# Altium footprint library STeRG-ICs-Standard.PcbLib: 44 footprints (part 1 of 3)
Each footprint in its own frame and in the unit in brackets; x right, y up, seen from the top. Pads: shape width x height; smd on the part's side, far side on the other; paste and mask are expansions set on the pad; w line width, h text height; cw(c..) or ccw(c..) is an arc to the next point about the centre after c.
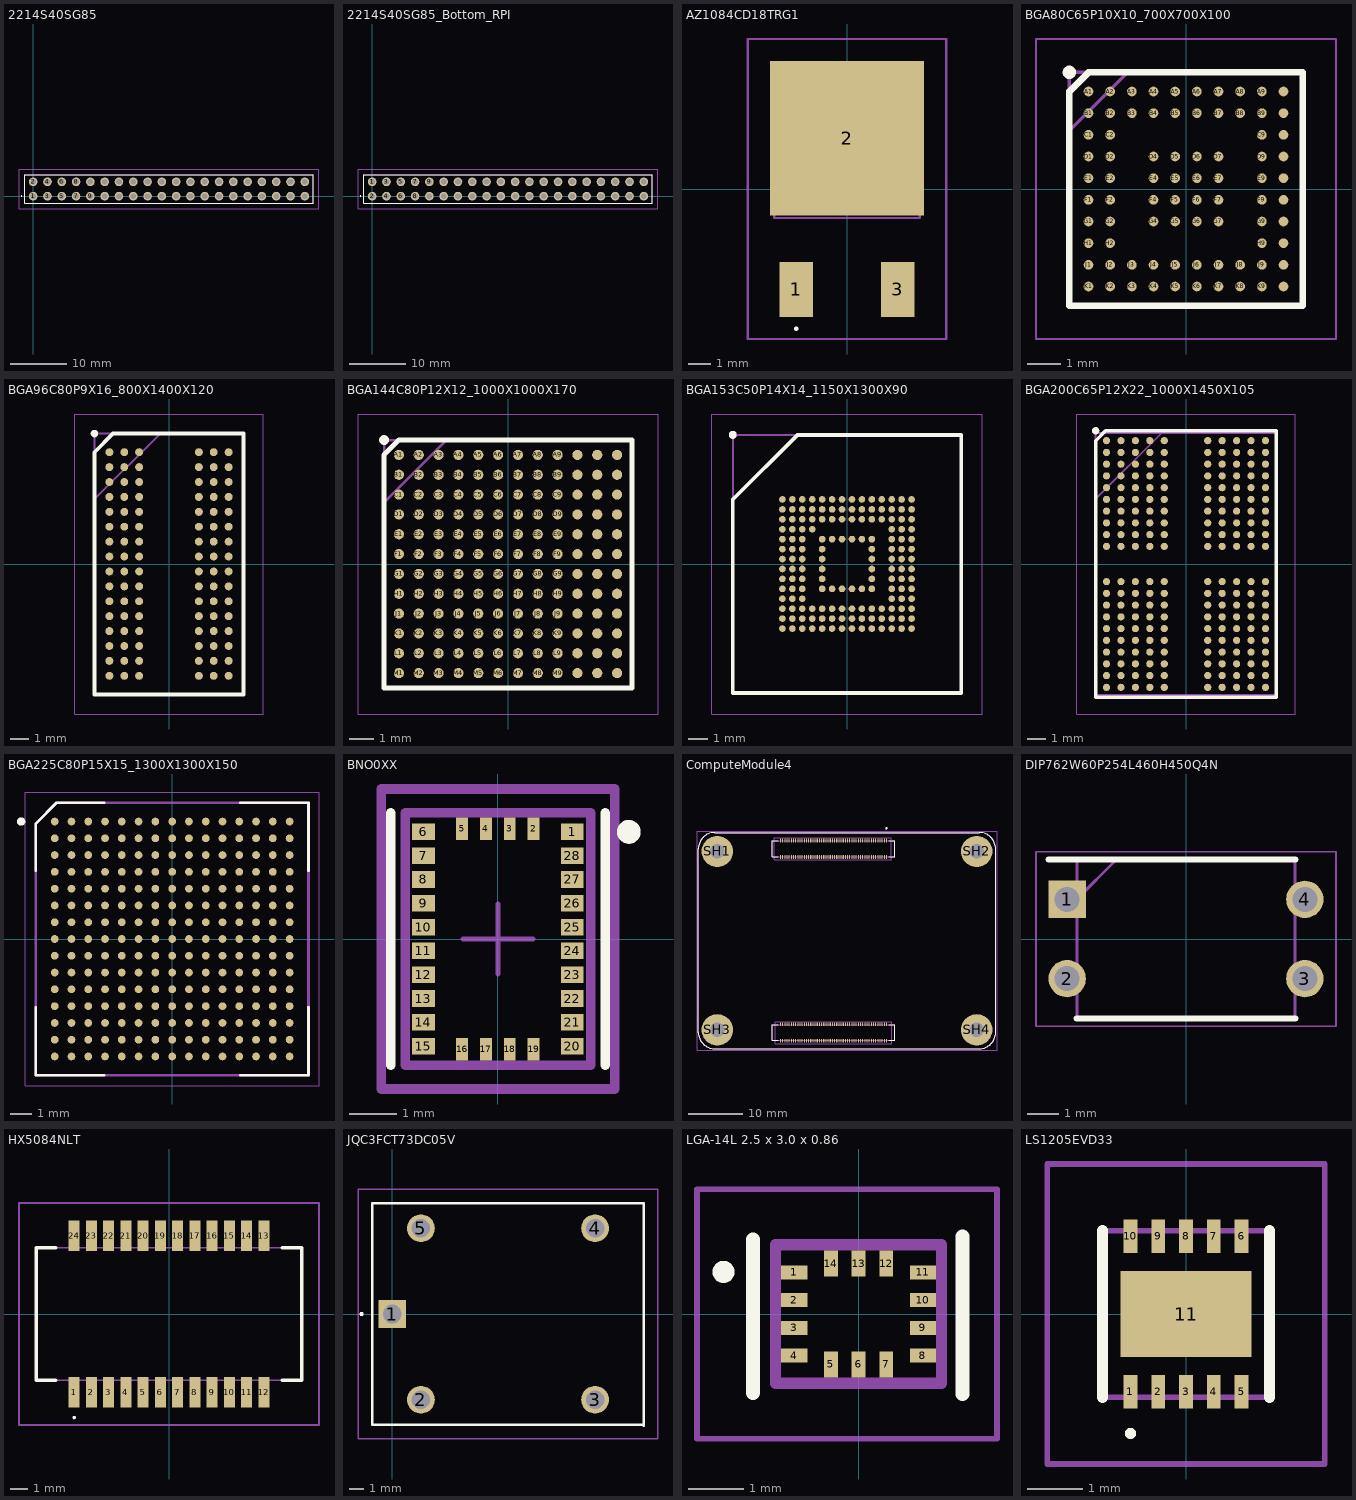
[diagram p0: the footprints below, top view; thin cyan lines are the x and y axes]

## 2214S40SG85 [mm]
pads (40):
  round 1.53 hole 1.02: 1(0,0) 2(0,2.54) 3(2.54,0) 4(2.54,2.54) 5(5.08,0) 6(5.08,2.54) 7(7.62,0) 8(7.62,2.54) 9(10.16,0) 10(10.16,2.54) 11(12.7,0) 12(12.7,2.54) 13(15.24,0) 14(15.24,2.54) 15(17.78,0) 16(17.78,2.54) 17(20.32,0) 18(20.32,2.54) 19(22.86,0) 20(22.86,2.54) 21(25.4,0) 22(25.4,2.54) 23(27.94,0) 24(27.94,2.54) 25(30.48,0) 26(30.48,2.54) 27(33.02,0) 28(33.02,2.54) 29(35.56,0) 30(35.56,2.54) 31(38.1,0) 32(38.1,2.54) 33(40.64,0) 34(40.64,2.54) 35(43.18,0) 36(43.18,2.54) 37(45.72,0) 38(45.72,2.54) 39(48.26,0) 40(48.26,2.54)
Top Overlay:
  lines w0.1: -2.1,0 cw(c-2.05,0) -2,0 cw(c-2.05,0) -2.1,0
  lines w0.2: -1.52,-1.27 -1.52,3.81 49.78,3.81 49.78,-1.27 -1.52,-1.27
Mechanical 13:
  lines w0.1: -1.52,-1.27 -1.52,3.81 49.78,3.81 49.78,-1.27 -1.52,-1.27
Mechanical 15:
  lines w0.1: -2.52,-2.27 -2.52,4.81 50.78,4.81 50.78,-2.27 -2.52,-2.27
3D body "M20-7831046.stp": height 8.46, standoff -3.04, extent -1.47,-1.27 24.33,3.77
3D body "M20-7831046.stp": height 8.46, standoff -3.04, extent 23.93,-1.27 49.73,3.77

## 2214S40SG85_Bottom_RPI [mm]
pads (40):
  round 1.53 hole 1.02: 1(0,2.54) 2(0,0) 3(2.54,2.54) 4(2.54,0) 5(5.08,2.54) 6(5.08,0) 7(7.62,2.54) 8(7.62,0) 9(10.16,2.54) 10(10.16,0) 11(12.7,2.54) 12(12.7,0) 13(15.24,2.54) 14(15.24,0) 15(17.78,2.54) 16(17.78,0) 17(20.32,2.54) 18(20.32,0) 19(22.86,2.54) 20(22.86,0) 21(25.4,2.54) 22(25.4,0) 23(27.94,2.54) 24(27.94,0) 25(30.48,2.54) 26(30.48,0) 27(33.02,2.54) 28(33.02,0) 29(35.56,2.54) 30(35.56,0) 31(38.1,2.54) 32(38.1,0) 33(40.64,2.54) 34(40.64,0) 35(43.18,2.54) 36(43.18,0) 37(45.72,2.54) 38(45.72,0) 39(48.26,2.54) 40(48.26,0)
Top Overlay:
  lines w0.1: -2.1,0 ccw(c-2.05,0) -2,0 ccw(c-2.05,0) -2.1,0
  lines w0.2: -1.52,-1.27 49.78,-1.27 49.78,3.81 -1.52,3.81 -1.52,-1.27
Mechanical 13:
  lines w0.1: -1.52,-1.27 49.78,-1.27 49.78,3.81 -1.52,3.81 -1.52,-1.27
Mechanical 15:
  lines w0.1: -2.52,-2.27 50.78,-2.27 50.78,4.81 -2.52,4.81 -2.52,-2.27
3D body "M20-7831046.stp": height 2.5, standoff -9, extent 23.93,-1.23 49.73,3.81
3D body "M20-7831046.stp": height 2.5, standoff -9, extent -1.47,-1.23 24.33,3.81

## AZ1084CD18TRG1 [mm]
pads (3):
  rect 1.5x2.5 smd: 1(-2.3,-4.55) 3(2.3,-4.55)
  rect 7x7 smd: 2(0,2.3)
Top Overlay:
  lines w0.1: -2.3,-6.381 cw(c-2.3,-6.331) -2.3,-6.281 cw(c-2.3,-6.331) -2.3,-6.381
Mechanical 13:
  lines w0.1: -3.3,-1.312 3.3,-1.312 3.3,4.788 -3.3,4.788 -3.3,-1.312
Mechanical 15:
  lines w0.1: -4.5,-6.8 4.5,-6.8 4.5,6.8 -4.5,6.8 -4.5,-6.8
3D body "AZ1084CD-1.8TRG1.stp": height 2.48, standoff 0, extent -3.29,-4.41 3.29,5.5

## BGA80C65P10X10_700X700X100 [mm]
pads (80):
  round 0.29 smd: A1(-2.925,2.925) A2(-2.275,2.925) A3(-1.625,2.925) A4(-0.975,2.925) A5(-0.325,2.925) A6(0.325,2.925) A7(0.975,2.925) A8(1.625,2.925) A9(2.275,2.925) A10(2.925,2.925) B1(-2.925,2.275) B2(-2.275,2.275) B3(-1.625,2.275) B4(-0.975,2.275) B5(-0.325,2.275) B6(0.325,2.275) B7(0.975,2.275) B8(1.625,2.275) B9(2.275,2.275) B10(2.925,2.275) C1(-2.925,1.625) C2(-2.275,1.625) C9(2.275,1.625) C10(2.925,1.625) D1(-2.925,0.975) D2(-2.275,0.975) D4(-0.975,0.975) D5(-0.325,0.975) D6(0.325,0.975) D7(0.975,0.975) D9(2.275,0.975) D10(2.925,0.975) E1(-2.925,0.325) E2(-2.275,0.325) E4(-0.975,0.325) E5(-0.325,0.325) E6(0.325,0.325) E7(0.975,0.325) E9(2.275,0.325) E10(2.925,0.325) F1(-2.925,-0.325) F2(-2.275,-0.325) F4(-0.975,-0.325) F5(-0.325,-0.325) F6(0.325,-0.325) F7(0.975,-0.325) F9(2.275,-0.325) F10(2.925,-0.325) G1(-2.925,-0.975) G2(-2.275,-0.975) G4(-0.975,-0.975) G5(-0.325,-0.975) G6(0.325,-0.975) G7(0.975,-0.975) G9(2.275,-0.975) G10(2.925,-0.975) H1(-2.925,-1.625) H2(-2.275,-1.625) H9(2.275,-1.625) H10(2.925,-1.625) J1(-2.925,-2.275) J2(-2.275,-2.275) J3(-1.625,-2.275) J4(-0.975,-2.275) J5(-0.325,-2.275) J6(0.325,-2.275) J7(0.975,-2.275) J8(1.625,-2.275) J9(2.275,-2.275) J10(2.925,-2.275) K1(-2.925,-2.925) K2(-2.275,-2.925) K3(-1.625,-2.925) K4(-0.975,-2.925) K5(-0.325,-2.925) K6(0.325,-2.925) K7(0.975,-2.925) K8(1.625,-2.925) K9(2.275,-2.925) K10(2.925,-2.925)
Top Overlay:
  circle w0.2: c-3.5,3.5 r0.1
  lines w0.2: -3.5,-3.5 3.5,-3.5 3.5,3.5 -2.925,3.5 -3.5,2.925 -3.5,-3.5
Mechanical 13:
  lines w0.1: -3.5,1.75 -1.75,3.5 ; -3.5,-3.5 3.5,-3.5 3.5,3.5 -3.5,3.5 -3.5,-3.5
Mechanical 15:
  lines w0.05: -4.5,-4.5 4.5,-4.5 4.5,4.5 -4.5,4.5 -4.5,-4.5
3D body "TC358748XBG_EL_.stp": height 1, standoff 0, extent -3.5,-3.5 3.5,3.5

## BGA96C80P9X16_800X1400X120 [mm]
pads (96):
  round 0.426 smd: A1(-3.2,6) A2(-2.4,6) A3(-1.6,6) A7(1.6,6) A8(2.4,6) A9(3.2,6) B1(-3.2,5.2) B2(-2.4,5.2) B3(-1.6,5.2) B7(1.6,5.2) B8(2.4,5.2) B9(3.2,5.2) C1(-3.2,4.4) C2(-2.4,4.4) C3(-1.6,4.4) C7(1.6,4.4) C8(2.4,4.4) C9(3.2,4.4) D1(-3.2,3.6) D2(-2.4,3.6) D3(-1.6,3.6) D7(1.6,3.6) D8(2.4,3.6) D9(3.2,3.6) E1(-3.2,2.8) E2(-2.4,2.8) E3(-1.6,2.8) E7(1.6,2.8) E8(2.4,2.8) E9(3.2,2.8) F1(-3.2,2) F2(-2.4,2) F3(-1.6,2) F7(1.6,2) F8(2.4,2) F9(3.2,2) G1(-3.2,1.2) G2(-2.4,1.2) G3(-1.6,1.2) G7(1.6,1.2) G8(2.4,1.2) G9(3.2,1.2) H1(-3.2,0.4) H2(-2.4,0.4) H3(-1.6,0.4) H7(1.6,0.4) H8(2.4,0.4) H9(3.2,0.4) J1(-3.2,-0.4) J2(-2.4,-0.4) J3(-1.6,-0.4) J7(1.6,-0.4) J8(2.4,-0.4) J9(3.2,-0.4) K1(-3.2,-1.2) K2(-2.4,-1.2) K3(-1.6,-1.2) K7(1.6,-1.2) K8(2.4,-1.2) K9(3.2,-1.2) L1(-3.2,-2) L2(-2.4,-2) L3(-1.6,-2) L7(1.6,-2) L8(2.4,-2) L9(3.2,-2) M1(-3.2,-2.8) M2(-2.4,-2.8) M3(-1.6,-2.8) M7(1.6,-2.8) M8(2.4,-2.8) M9(3.2,-2.8) N1(-3.2,-3.6) N2(-2.4,-3.6) N3(-1.6,-3.6) N7(1.6,-3.6) N8(2.4,-3.6) N9(3.2,-3.6) P1(-3.2,-4.4) P2(-2.4,-4.4) P3(-1.6,-4.4) P7(1.6,-4.4) P8(2.4,-4.4) P9(3.2,-4.4) R1(-3.2,-5.2) R2(-2.4,-5.2) R3(-1.6,-5.2) R7(1.6,-5.2) R8(2.4,-5.2) R9(3.2,-5.2) T1(-3.2,-6) T2(-2.4,-6) T3(-1.6,-6) T7(1.6,-6) T8(2.4,-6) T9(3.2,-6)
Top Overlay:
  circle w0.2: c-4,7 r0.1
  lines w0.2: -4,-7 4,-7 4,7 -3,7 -4,6 -4,-7
Mechanical 13:
  lines w0.1: -4,3.475 -0.475,7 ; -4,-7 4,-7 4,7 -4,7 -4,-7
Mechanical 15:
  lines w0.05: -5.05,-8.05 5.05,-8.05 5.05,8.05 -5.05,8.05 -5.05,-8.05
3D body "MT41K512M16VRP-107IT_P.stp": height 1.2, standoff 0, extent -4,-7 4,7

## BGA144C80P12X12_1000X1000X170 [mm]
pads (144):
  round 0.41 smd: A1(-4.4,4.4) A2(-3.6,4.4) A3(-2.8,4.4) A4(-2,4.4) A5(-1.2,4.4) A6(-0.4,4.4) A7(0.4,4.4) A8(1.2,4.4) A9(2,4.4) A10(2.8,4.4) A11(3.6,4.4) A12(4.4,4.4) B1(-4.4,3.6) B2(-3.6,3.6) B3(-2.8,3.6) B4(-2,3.6) B5(-1.2,3.6) B6(-0.4,3.6) B7(0.4,3.6) B8(1.2,3.6) B9(2,3.6) B10(2.8,3.6) B11(3.6,3.6) B12(4.4,3.6) C1(-4.4,2.8) C2(-3.6,2.8) C3(-2.8,2.8) C4(-2,2.8) C5(-1.2,2.8) C6(-0.4,2.8) C7(0.4,2.8) C8(1.2,2.8) C9(2,2.8) C10(2.8,2.8) C11(3.6,2.8) C12(4.4,2.8) D1(-4.4,2) D2(-3.6,2) D3(-2.8,2) D4(-2,2) D5(-1.2,2) D6(-0.4,2) D7(0.4,2) D8(1.2,2) D9(2,2) D10(2.8,2) D11(3.6,2) D12(4.4,2) E1(-4.4,1.2) E2(-3.6,1.2) E3(-2.8,1.2) E4(-2,1.2) E5(-1.2,1.2) E6(-0.4,1.2) E7(0.4,1.2) E8(1.2,1.2) E9(2,1.2) E10(2.8,1.2) E11(3.6,1.2) E12(4.4,1.2) F1(-4.4,0.4) F2(-3.6,0.4) F3(-2.8,0.4) F4(-2,0.4) F5(-1.2,0.4) F6(-0.4,0.4) F7(0.4,0.4) F8(1.2,0.4) F9(2,0.4) F10(2.8,0.4) F11(3.6,0.4) F12(4.4,0.4) G1(-4.4,-0.4) G2(-3.6,-0.4) G3(-2.8,-0.4) G4(-2,-0.4) G5(-1.2,-0.4) G6(-0.4,-0.4) G7(0.4,-0.4) G8(1.2,-0.4) G9(2,-0.4) G10(2.8,-0.4) G11(3.6,-0.4) G12(4.4,-0.4) H1(-4.4,-1.2) H2(-3.6,-1.2) H3(-2.8,-1.2) H4(-2,-1.2) H5(-1.2,-1.2) H6(-0.4,-1.2) H7(0.4,-1.2) H8(1.2,-1.2) H9(2,-1.2) H10(2.8,-1.2) H11(3.6,-1.2) H12(4.4,-1.2) J1(-4.4,-2) J2(-3.6,-2) J3(-2.8,-2) J4(-2,-2) J5(-1.2,-2) J6(-0.4,-2) J7(0.4,-2) J8(1.2,-2) J9(2,-2) J10(2.8,-2) J11(3.6,-2) J12(4.4,-2) K1(-4.4,-2.8) K2(-3.6,-2.8) K3(-2.8,-2.8) K4(-2,-2.8) K5(-1.2,-2.8) K6(-0.4,-2.8) K7(0.4,-2.8) K8(1.2,-2.8) K9(2,-2.8) K10(2.8,-2.8) K11(3.6,-2.8) K12(4.4,-2.8) L1(-4.4,-3.6) L2(-3.6,-3.6) L3(-2.8,-3.6) L4(-2,-3.6) L5(-1.2,-3.6) L6(-0.4,-3.6) L7(0.4,-3.6) L8(1.2,-3.6) L9(2,-3.6) L10(2.8,-3.6) L11(3.6,-3.6) L12(4.4,-3.6) M1(-4.4,-4.4) M2(-3.6,-4.4) M3(-2.8,-4.4) M4(-2,-4.4) M5(-1.2,-4.4) M6(-0.4,-4.4) M7(0.4,-4.4) M8(1.2,-4.4) M9(2,-4.4) M10(2.8,-4.4) M11(3.6,-4.4) M12(4.4,-4.4)
Top Overlay:
  circle w0.2: c-5,5 r0.1
  lines w0.2: -5,-5 5,-5 5,5 -4.4,5 -5,4.4 -5,-5
Mechanical 13:
  lines w0.1: -5,2.475 -2.475,5 ; -5,-5 5,-5 5,5 -5,5 -5,-5
Mechanical 15:
  lines w0.05: -6.05,-6.05 6.05,-6.05 6.05,6.05 -6.05,6.05 -6.05,-6.05
3D body "AD9364BBCZ.stp": height 1.7, standoff 0, extent -5,-5 5,5

## BGA153C50P14X14_1150X1300X90 [mm]
pads (153):
  round 0.336 smd: A1(-3.25,3.25) A2(-2.75,3.25) A3(-2.25,3.25) A4(-1.75,3.25) A5(-1.25,3.25) A6(-0.75,3.25) A7(-0.25,3.25) A8(0.25,3.25) A9(0.75,3.25) A10(1.25,3.25) A11(1.75,3.25) A12(2.25,3.25) A13(2.75,3.25) A14(3.25,3.25) B1(-3.25,2.75) B2(-2.75,2.75) B3(-2.25,2.75) B4(-1.75,2.75) B5(-1.25,2.75) B6(-0.75,2.75) B7(-0.25,2.75) B8(0.25,2.75) B9(0.75,2.75) B10(1.25,2.75) B11(1.75,2.75) B12(2.25,2.75) B13(2.75,2.75) B14(3.25,2.75) C1(-3.25,2.25) C2(-2.75,2.25) C3(-2.25,2.25) C4(-1.75,2.25) C5(-1.25,2.25) C6(-0.75,2.25) C7(-0.25,2.25) C8(0.25,2.25) C9(0.75,2.25) C10(1.25,2.25) C11(1.75,2.25) C12(2.25,2.25) C13(2.75,2.25) C14(3.25,2.25) D1(-3.25,1.75) D2(-2.75,1.75) D3(-2.25,1.75) D4(-1.75,1.75) D12(2.25,1.75) D13(2.75,1.75) D14(3.25,1.75) E1(-3.25,1.25) E2(-2.75,1.25) E3(-2.25,1.25) E5(-1.25,1.25) E6(-0.75,1.25) E7(-0.25,1.25) E8(0.25,1.25) E9(0.75,1.25) E10(1.25,1.25) E12(2.25,1.25) E13(2.75,1.25) E14(3.25,1.25) F1(-3.25,0.75) F2(-2.75,0.75) F3(-2.25,0.75) F5(-1.25,0.75) F10(1.25,0.75) F12(2.25,0.75) F13(2.75,0.75) F14(3.25,0.75) G1(-3.25,0.25) G2(-2.75,0.25) G3(-2.25,0.25) G5(-1.25,0.25) G10(1.25,0.25) G12(2.25,0.25) G13(2.75,0.25) G14(3.25,0.25) H1(-3.25,-0.25) H2(-2.75,-0.25) H3(-2.25,-0.25) H5(-1.25,-0.25) H10(1.25,-0.25) H12(2.25,-0.25) H13(2.75,-0.25) H14(3.25,-0.25) J1(-3.25,-0.75) J2(-2.75,-0.75) J3(-2.25,-0.75) J5(-1.25,-0.75) J10(1.25,-0.75) J12(2.25,-0.75) J13(2.75,-0.75) J14(3.25,-0.75) K1(-3.25,-1.25) K2(-2.75,-1.25) K3(-2.25,-1.25) K5(-1.25,-1.25) K6(-0.75,-1.25) K7(-0.25,-1.25) K8(0.25,-1.25) K9(0.75,-1.25) K10(1.25,-1.25) K12(2.25,-1.25) K13(2.75,-1.25) K14(3.25,-1.25) L1(-3.25,-1.75) L2(-2.75,-1.75) L3(-2.25,-1.75) L12(2.25,-1.75) L13(2.75,-1.75) L14(3.25,-1.75) M1(-3.25,-2.25) M2(-2.75,-2.25) M3(-2.25,-2.25) M4(-1.75,-2.25) M5(-1.25,-2.25) M6(-0.75,-2.25) M7(-0.25,-2.25) M8(0.25,-2.25) M9(0.75,-2.25) M10(1.25,-2.25) M11(1.75,-2.25) M12(2.25,-2.25) M13(2.75,-2.25) M14(3.25,-2.25) N1(-3.25,-2.75) N2(-2.75,-2.75) N3(-2.25,-2.75) N4(-1.75,-2.75) N5(-1.25,-2.75) N6(-0.75,-2.75) N7(-0.25,-2.75) N8(0.25,-2.75) N9(0.75,-2.75) N10(1.25,-2.75) N11(1.75,-2.75) N12(2.25,-2.75) N13(2.75,-2.75) N14(3.25,-2.75) P1(-3.25,-3.25) P2(-2.75,-3.25) P3(-2.25,-3.25) P4(-1.75,-3.25) P5(-1.25,-3.25) P6(-0.75,-3.25) P7(-0.25,-3.25) P8(0.25,-3.25) P9(0.75,-3.25) P10(1.25,-3.25) P11(1.75,-3.25) P12(2.25,-3.25) P13(2.75,-3.25) P14(3.25,-3.25)
Top Overlay:
  circle w0.2: c-5.75,6.5 r0.1
  lines w0.2: -5.75,-6.5 -5.75,3.25 -2.5,6.5 5.75,6.5 5.75,-6.5 -5.75,-6.5
Mechanical 13:
  lines w0.1: -5.75,3.225 -2.475,6.5 ; -5.75,-6.5 -5.75,6.5 5.75,6.5 5.75,-6.5 -5.75,-6.5
Mechanical 15:
  lines w0.05: -6.8,-7.55 -6.8,7.55 6.8,7.55 6.8,-7.55 -6.8,-7.55
3D body "MTFC32GAZAQHD-WT.stp": height 0.9, standoff 0, extent -5.75,-6.5 5.75,6.5

## BGA200C65P12X22_1000X1450X105 [mm]
pads (200):
  round 0.399 smd: A1(-4.4,6.825) A2(-3.6,6.825) A3(-2.8,6.825) A4(-2,6.825) A5(-1.2,6.825) A8(1.2,6.825) A9(2,6.825) A10(2.8,6.825) A11(3.6,6.825) A12(4.4,6.825) AA1(-4.4,-6.175) AA2(-3.6,-6.175) AA3(-2.8,-6.175) AA4(-2,-6.175) AA5(-1.2,-6.175) AA8(1.2,-6.175) AA9(2,-6.175) AA10(2.8,-6.175) AA11(3.6,-6.175) AA12(4.4,-6.175) AB1(-4.4,-6.825) AB2(-3.6,-6.825) AB3(-2.8,-6.825) AB4(-2,-6.825) AB5(-1.2,-6.825) AB8(1.2,-6.825) AB9(2,-6.825) AB10(2.8,-6.825) AB11(3.6,-6.825) AB12(4.4,-6.825) B1(-4.4,6.175) B2(-3.6,6.175) B3(-2.8,6.175) B4(-2,6.175) B5(-1.2,6.175) B8(1.2,6.175) B9(2,6.175) B10(2.8,6.175) B11(3.6,6.175) B12(4.4,6.175) C1(-4.4,5.525) C2(-3.6,5.525) C3(-2.8,5.525) C4(-2,5.525) C5(-1.2,5.525) C8(1.2,5.525) C9(2,5.525) C10(2.8,5.525) C11(3.6,5.525) C12(4.4,5.525) D1(-4.4,4.875) D2(-3.6,4.875) D3(-2.8,4.875) D4(-2,4.875) D5(-1.2,4.875) D8(1.2,4.875) D9(2,4.875) D10(2.8,4.875) D11(3.6,4.875) D12(4.4,4.875) E1(-4.4,4.225) E2(-3.6,4.225) E3(-2.8,4.225) E4(-2,4.225) E5(-1.2,4.225) E8(1.2,4.225) E9(2,4.225) E10(2.8,4.225) E11(3.6,4.225) E12(4.4,4.225) F1(-4.4,3.575) F2(-3.6,3.575) F3(-2.8,3.575) F4(-2,3.575) F5(-1.2,3.575) F8(1.2,3.575) F9(2,3.575) F10(2.8,3.575) F11(3.6,3.575) F12(4.4,3.575) G1(-4.4,2.925) G2(-3.6,2.925) G3(-2.8,2.925) G4(-2,2.925) G5(-1.2,2.925) G8(1.2,2.925) G9(2,2.925) G10(2.8,2.925) G11(3.6,2.925) G12(4.4,2.925) H1(-4.4,2.275) H2(-3.6,2.275) H3(-2.8,2.275) H4(-2,2.275) H5(-1.2,2.275) H8(1.2,2.275) H9(2,2.275) H10(2.8,2.275) H11(3.6,2.275) H12(4.4,2.275) J1(-4.4,1.625) J2(-3.6,1.625) J3(-2.8,1.625) J4(-2,1.625) J5(-1.2,1.625) J8(1.2,1.625) J9(2,1.625) J10(2.8,1.625) J11(3.6,1.625) J12(4.4,1.625) K1(-4.4,0.975) K2(-3.6,0.975) K3(-2.8,0.975) K4(-2,0.975) K5(-1.2,0.975) K8(1.2,0.975) K9(2,0.975) K10(2.8,0.975) K11(3.6,0.975) K12(4.4,0.975) N1(-4.4,-0.975) N2(-3.6,-0.975) N3(-2.8,-0.975) N4(-2,-0.975) N5(-1.2,-0.975) N8(1.2,-0.975) N9(2,-0.975) N10(2.8,-0.975) N11(3.6,-0.975) N12(4.4,-0.975) P1(-4.4,-1.625) P2(-3.6,-1.625) P3(-2.8,-1.625) P4(-2,-1.625) P5(-1.2,-1.625) P8(1.2,-1.625) P9(2,-1.625) P10(2.8,-1.625) P11(3.6,-1.625) P12(4.4,-1.625) R1(-4.4,-2.275) R2(-3.6,-2.275) R3(-2.8,-2.275) R4(-2,-2.275) R5(-1.2,-2.275) R8(1.2,-2.275) R9(2,-2.275) R10(2.8,-2.275) R11(3.6,-2.275) R12(4.4,-2.275) T1(-4.4,-2.925) T2(-3.6,-2.925) T3(-2.8,-2.925) T4(-2,-2.925) T5(-1.2,-2.925) T8(1.2,-2.925) T9(2,-2.925) T10(2.8,-2.925) T11(3.6,-2.925) T12(4.4,-2.925) U1(-4.4,-3.575) U2(-3.6,-3.575) U3(-2.8,-3.575) U4(-2,-3.575) U5(-1.2,-3.575) U8(1.2,-3.575) U9(2,-3.575) U10(2.8,-3.575) U11(3.6,-3.575) U12(4.4,-3.575) V1(-4.4,-4.225) V2(-3.6,-4.225) V3(-2.8,-4.225) V4(-2,-4.225) V5(-1.2,-4.225) V8(1.2,-4.225) V9(2,-4.225) V10(2.8,-4.225) V11(3.6,-4.225) V12(4.4,-4.225) W1(-4.4,-4.875) W2(-3.6,-4.875) W3(-2.8,-4.875) W4(-2,-4.875) W5(-1.2,-4.875) W8(1.2,-4.875) W9(2,-4.875) W10(2.8,-4.875) W11(3.6,-4.875) W12(4.4,-4.875) Y1(-4.4,-5.525) Y2(-3.6,-5.525) Y3(-2.8,-5.525) Y4(-2,-5.525) Y5(-1.2,-5.525) Y8(1.2,-5.525) Y9(2,-5.525) Y10(2.8,-5.525) Y11(3.6,-5.525) Y12(4.4,-5.525)
Top Overlay:
  circle w0.2: c-5,7.374 r0.1
  lines w0.2: -5,-7.375 5,-7.375 5,7.374 -4.451,7.374 -5,6.824 -5,-7.375
Mechanical 13:
  lines w0.1: -5,3.6 -1.35,7.25 ; -5,-7.25 5,-7.25 5,7.25 -5,7.25 -5,-7.25
Mechanical 15:
  lines w0.05: -6.05,-8.3 6.05,-8.3 6.05,8.3 -6.05,8.3 -6.05,-8.3
3D body "MT53E512M32D1ZW-046_WT_B.stp": height 0.95, standoff 0, extent -4.99,-7.25 5.01,7.25

## BGA225C80P15X15_1300X1300X150 [mm]
pads (225):
  round 0.37 smd paste+0 mask+0.102: A1(-5.6,5.6) A2(-4.8,5.6) A3(-4,5.6) A4(-3.2,5.6) A5(-2.4,5.6) A6(-1.6,5.6) A7(-0.8,5.6) A8(0,5.6) A9(0.8,5.6) A10(1.6,5.6) A11(2.4,5.6) A12(3.2,5.6) A13(4,5.6) A14(4.8,5.6) A15(5.6,5.6) B1(-5.6,4.8) B2(-4.8,4.8) B3(-4,4.8) B4(-3.2,4.8) B5(-2.4,4.8) B6(-1.6,4.8) B7(-0.8,4.8) B8(0,4.8) B9(0.8,4.8) B10(1.6,4.8) B11(2.4,4.8) B12(3.2,4.8) B13(4,4.8) B14(4.8,4.8) B15(5.6,4.8) C1(-5.6,4) C2(-4.8,4) C3(-4,4) C4(-3.2,4) C5(-2.4,4) C6(-1.6,4) C7(-0.8,4) C8(0,4) C9(0.8,4) C10(1.6,4) C11(2.4,4) C12(3.2,4) C13(4,4) C14(4.8,4) C15(5.6,4) D1(-5.6,3.2) D2(-4.8,3.2) D3(-4,3.2) D4(-3.2,3.2) D5(-2.4,3.2) D6(-1.6,3.2) D7(-0.8,3.2) D8(0,3.2) D9(0.8,3.2) D10(1.6,3.2) D11(2.4,3.2) D12(3.2,3.2) D13(4,3.2) D14(4.8,3.2) D15(5.6,3.2) E1(-5.6,2.4) E2(-4.8,2.4) E3(-4,2.4) E4(-3.2,2.4) E5(-2.4,2.4) E6(-1.6,2.4) E7(-0.8,2.4) E8(0,2.4) E9(0.8,2.4) E10(1.6,2.4) E11(2.4,2.4) E12(3.2,2.4) E13(4,2.4) E14(4.8,2.4) E15(5.6,2.4) F1(-5.6,1.6) F2(-4.8,1.6) F3(-4,1.6) F4(-3.2,1.6) F5(-2.4,1.6) F6(-1.6,1.6) F7(-0.8,1.6) F8(0,1.6) F9(0.8,1.6) F10(1.6,1.6) F11(2.4,1.6) F12(3.2,1.6) F13(4,1.6) F14(4.8,1.6) F15(5.6,1.6) G1(-5.6,0.8) G2(-4.8,0.8) G3(-4,0.8) G4(-3.2,0.8) G5(-2.4,0.8) G6(-1.6,0.8) G7(-0.8,0.8) G8(0,0.8) G9(0.8,0.8) G10(1.6,0.8) G11(2.4,0.8) G12(3.2,0.8) G13(4,0.8) G14(4.8,0.8) G15(5.6,0.8) H1(-5.6,0) H2(-4.8,0) H3(-4,0) H4(-3.2,0) H5(-2.4,0) H6(-1.6,0) H7(-0.8,0) H8(0,0) H9(0.8,0) H10(1.6,0) H11(2.4,0) H12(3.2,0) H13(4,0) H14(4.8,0) H15(5.6,0) J1(-5.6,-0.8) J2(-4.8,-0.8) J3(-4,-0.8) J4(-3.2,-0.8) J5(-2.4,-0.8) J6(-1.6,-0.8) J7(-0.8,-0.8) J8(0,-0.8) J9(0.8,-0.8) J10(1.6,-0.8) J11(2.4,-0.8) J12(3.2,-0.8) J13(4,-0.8) J14(4.8,-0.8) J15(5.6,-0.8) K1(-5.6,-1.6) K2(-4.8,-1.6) K3(-4,-1.6) K4(-3.2,-1.6) K5(-2.4,-1.6) K6(-1.6,-1.6) K7(-0.8,-1.6) K8(0,-1.6) K9(0.8,-1.6) K10(1.6,-1.6) K11(2.4,-1.6) K12(3.2,-1.6) K13(4,-1.6) K14(4.8,-1.6) K15(5.6,-1.6) L1(-5.6,-2.4) L2(-4.8,-2.4) L3(-4,-2.4) L4(-3.2,-2.4) L5(-2.4,-2.4) L6(-1.6,-2.4) L7(-0.8,-2.4) L8(0,-2.4) L9(0.8,-2.4) L10(1.6,-2.4) L11(2.4,-2.4) L12(3.2,-2.4) L13(4,-2.4) L14(4.8,-2.4) L15(5.6,-2.4) M1(-5.6,-3.2) M2(-4.8,-3.2) M3(-4,-3.2) M4(-3.2,-3.2) M5(-2.4,-3.2) M6(-1.6,-3.2) M7(-0.8,-3.2) M8(0,-3.2) M9(0.8,-3.2) M10(1.6,-3.2) M11(2.4,-3.2) M12(3.2,-3.2) M13(4,-3.2) M14(4.8,-3.2) M15(5.6,-3.2) N1(-5.6,-4) N2(-4.8,-4) N3(-4,-4) N4(-3.2,-4) N5(-2.4,-4) N6(-1.6,-4) N7(-0.8,-4) N8(0,-4) N9(0.8,-4) N10(1.6,-4) N11(2.4,-4) N12(3.2,-4) N13(4,-4) N14(4.8,-4) N15(5.6,-4) P1(-5.6,-4.8) P2(-4.8,-4.8) P3(-4,-4.8) P4(-3.2,-4.8) P5(-2.4,-4.8) P6(-1.6,-4.8) P7(-0.8,-4.8) P8(0,-4.8) P9(0.8,-4.8) P10(1.6,-4.8) P11(2.4,-4.8) P12(3.2,-4.8) P13(4,-4.8) P14(4.8,-4.8) P15(5.6,-4.8) R1(-5.6,-5.6) R2(-4.8,-5.6) R3(-4,-5.6) R4(-3.2,-5.6) R5(-2.4,-5.6) R6(-1.6,-5.6) R7(-0.8,-5.6) R8(0,-5.6) R9(0.8,-5.6) R10(1.6,-5.6) R11(2.4,-5.6) R12(3.2,-5.6) R13(4,-5.6) R14(4.8,-5.6) R15(5.6,-5.6)
Top Overlay:
  circle w0.2: c-7.2,5.6 r0.1
  lines w0.127: -6.5,-3.25 -6.5,-6.5 -3.25,-6.5 ; -6.5,3.25 -6.5,5.5 -5.5,6.5 -3.25,6.5 ; 3.25,-6.5 6.5,-6.5 6.5,-3.25 ; 3.25,6.5 6.5,6.5 6.5,3.25
Mechanical 13:
  lines w0.127: -6.5,-6.5 6.5,-6.5 6.5,6.5 -5.5,6.5 -6.5,5.5 -6.5,-6.5
Mechanical 15:
  lines w0.05: -7,-7 -7,7 7,7 7,-7 -7,-7
3D body "step_temp.STEP": height 1, standoff 0, extent -6.507,-6.507 6.507,6.507

## BNO0XX [mm]
pads (28):
  rect 0.475x0.35 smd paste+0 mask-1000: 1(1.562,2.25) 6(-1.562,2.25) 7(-1.562,1.75) 8(-1.562,1.25) 9(-1.562,0.75) 10(-1.562,0.25) 11(-1.562,-0.25) 12(-1.562,-0.75) 13(-1.562,-1.25) 14(-1.562,-1.75) 15(-1.562,-2.25) 20(1.562,-2.25) 21(1.562,-1.75) 22(1.562,-1.25) 23(1.562,-0.75) 24(1.562,-0.25) 25(1.562,0.25) 26(1.562,0.75) 27(1.562,1.25) 28(1.562,1.75)
  rect 0.25x0.475 smd paste+0 mask-1000: 2(0.75,2.312) 3(0.25,2.312) 4(-0.25,2.312) 5(-0.75,2.312) 16(-0.75,-2.312) 17(-0.25,-2.312) 18(0.25,-2.312) 19(0.75,-2.312)
Top Overlay:
  circle w0.25: c2.75,2.25 r0.125
  lines w0.2: -2.25,-2.65 -2.25,2.65 ; 2.25,-2.65 2.25,2.65
Top Solder:
  rectangle: 0.6,-2.575 0.9,-2.05
  rectangle: 0.1,-2.575 0.4,-2.05
  rectangle: -0.4,-2.575 -0.1,-2.05
  rectangle: -0.9,-2.575 -0.6,-2.05
  rectangle: -0.9,2.05 -0.6,2.575
  rectangle: -0.4,2.05 -0.1,2.575
  rectangle: 0.1,2.05 0.4,2.575
  rectangle: 0.6,2.05 0.9,2.575
  rectangle: 1.3,-2.45 1.825,-2.05
  rectangle: 1.3,-1.95 1.825,-1.55
  rectangle: 1.3,-1.45 1.825,-1.05
  rectangle: 1.3,-0.95 1.825,-0.55
  rectangle: 1.3,-0.45 1.825,-0.05
  rectangle: 1.3,0.05 1.825,0.45
  rectangle: 1.3,0.55 1.825,0.95
  rectangle: 1.3,1.05 1.825,1.45
  rectangle: 1.3,1.55 1.825,1.95
  rectangle: 1.3,2.05 1.825,2.45
  rectangle: -1.825,-2.45 -1.3,-2.05
  rectangle: -1.825,-1.95 -1.3,-1.55
  rectangle: -1.825,-1.45 -1.3,-1.05
  rectangle: -1.825,-0.95 -1.3,-0.55
  rectangle: -1.825,-0.45 -1.3,-0.05
  rectangle: -1.825,0.05 -1.3,0.45
  rectangle: -1.825,0.55 -1.3,0.95
  rectangle: -1.825,1.05 -1.3,1.45
  rectangle: -1.825,1.55 -1.3,1.95
  rectangle: -1.825,2.05 -1.3,2.45
Top 3D Body:
  lines w0.2: -1.95,-2.65 -1.95,2.65 1.95,2.65 1.95,-2.65 -1.95,-2.65
Board:
  lines w0.2: -2.45,-3.15 -2.45,3.15 2.45,3.15 2.45,-3.15 -2.45,-3.15
Top Assembly:
  lines w0.2: -2.45,-3.15 -2.45,3.15 2.45,3.15 2.45,-3.15 -2.45,-3.15
  text ".Designator" at 0,-0.001 h1
Top Component Center:
  lines w0.1: -0.735,0 0.735,0 ; 0,-0.735 0,0.735
3D body "IC_Bosch_Sensortec_BNO055_eec.STEP": height 0.25, standoff 0, extent -2.45,-3.15 2.45,3.15

## ComputeModule4 [mm]
pads (204):
  rect 0.2x0.7 smd: 1(58.224,59.297) 2(58.224,56.217) 3(57.824,59.297) 4(57.824,56.217) 5(57.424,59.297) 6(57.424,56.217) 7(57.024,59.297) 8(57.024,56.217) 9(56.624,59.297) 10(56.624,56.217) 11(56.224,59.297) 12(56.224,56.217) 13(55.824,59.297) 14(55.824,56.217) 15(55.424,59.297) 16(55.424,56.217) 17(55.024,59.297) 18(55.024,56.217) 19(54.624,59.297) 20(54.624,56.217) 21(54.224,59.297) 22(54.224,56.217) 23(53.824,59.297) 24(53.824,56.217) 25(53.424,59.297) 26(53.424,56.217) 27(53.024,59.297) 28(53.024,56.217) 29(52.624,59.297) 30(52.624,56.217) 31(52.224,59.297) 32(52.224,56.217) 33(51.824,59.297) 34(51.824,56.217) 35(51.424,59.297) 36(51.424,56.217) 37(51.024,59.297) 38(51.024,56.217) 39(50.624,59.297) 40(50.624,56.217) 41(50.224,59.297) 42(50.224,56.217) 43(49.824,59.297) 44(49.824,56.217) 45(49.424,59.297) 46(49.424,56.217) 47(49.024,59.297) 48(49.024,56.217) 49(48.624,59.297) 50(48.624,56.217) 51(48.224,59.297) 52(48.224,56.217) 53(47.824,59.297) 54(47.824,56.217) 55(47.424,59.297) 56(47.424,56.217) 57(47.024,59.297) 58(47.024,56.217) 59(46.624,59.297) 60(46.624,56.217) 61(46.224,59.297) 62(46.224,56.217) 63(45.824,59.297) 64(45.824,56.217) 65(45.424,59.297) 66(45.424,56.217) 67(45.024,59.297) 68(45.024,56.217) 69(44.624,59.297) 70(44.624,56.217) 71(44.224,59.297) 72(44.224,56.217) 73(43.824,59.297) 74(43.824,56.217) 75(43.424,59.297) 76(43.424,56.217) 77(43.024,59.297) 78(43.024,56.217) 79(42.624,59.297) 80(42.624,56.217) 81(42.224,59.297) 82(42.224,56.217) 83(41.824,59.297) 84(41.824,56.217) 85(41.424,59.297) 86(41.424,56.217) 87(41.024,59.297) 88(41.024,56.217) 89(40.624,59.297) 90(40.624,56.217) 91(40.224,59.297) 92(40.224,56.217) 93(39.824,59.297) 94(39.824,56.217) 95(39.424,59.297) 96(39.424,56.217) 97(39.024,59.297) 98(39.024,56.217) 99(38.624,59.297) 100(38.624,56.217) 101(58.224,25.297) 102(58.224,22.217) 103(57.824,25.297) 104(57.824,22.217) 105(57.424,25.297) 106(57.424,22.217) 107(57.024,25.297) 108(57.024,22.217) 109(56.624,25.297) 110(56.624,22.217) 111(56.224,25.297) 112(56.224,22.217) 113(55.824,25.297) 114(55.824,22.217) 115(55.424,25.297) 116(55.424,22.217) 117(55.024,25.297) 118(55.024,22.217) 119(54.624,25.297) 120(54.624,22.217) 121(54.224,25.297) 122(54.224,22.217) 123(53.824,25.297) 124(53.824,22.217) 125(53.424,25.297) 126(53.424,22.217) 127(53.024,25.297) 128(53.024,22.217) 129(52.624,25.297) 130(52.624,22.217) 131(52.224,25.297) 132(52.224,22.217) 133(51.824,25.297) 134(51.824,22.217) 135(51.424,25.297) 136(51.424,22.217) 137(51.024,25.297) 138(51.024,22.217) 139(50.624,25.297) 140(50.624,22.217) 141(50.224,25.297) 142(50.224,22.217) 143(49.824,25.297) 144(49.824,22.217) 145(49.424,25.297) 146(49.424,22.217) 147(49.024,25.297) 148(49.024,22.217) 149(48.624,25.297) 150(48.624,22.217) 151(48.224,25.297) 152(48.224,22.217) 153(47.824,25.297) 154(47.824,22.217) 155(47.424,25.297) 156(47.424,22.217) 157(47.024,25.297) 158(47.024,22.217) 159(46.624,25.297) 160(46.624,22.217) 161(46.224,25.297) 162(46.224,22.217) 163(45.824,25.297) 164(45.824,22.217) 165(45.424,25.297) 166(45.424,22.217) 167(45.024,25.297) 168(45.024,22.217) 169(44.624,25.297) 170(44.624,22.217) 171(44.224,25.297) 172(44.224,22.217) 173(43.824,25.297) 174(43.824,22.217) 175(43.424,25.297) 176(43.424,22.217) 177(43.024,25.297) 178(43.024,22.217) 179(42.624,25.297) 180(42.624,22.217) 181(42.224,25.297) 182(42.224,22.217) 183(41.824,25.297) 184(41.824,22.217) 185(41.424,25.297) 186(41.424,22.217) 187(41.024,25.297) 188(41.024,22.217) 189(40.624,25.297) 190(40.624,22.217) 191(40.224,25.297) 192(40.224,22.217) 193(39.824,25.297) 194(39.824,22.217) 195(39.424,25.297) 196(39.424,22.217) 197(39.024,25.297) 198(39.024,22.217) 199(38.624,25.297) 200(38.624,22.217)
  round 5.8 hole 2.7: SH1(26.924,57.257) SH2(74.924,57.257) SH3(26.924,24.257) SH4(74.924,24.257)
Top Overlay:
  circle w0.2: c58.224,61.507 r0.1
  lines w0.127: 38.204,22.317 37.124,22.317 37.124,25.197 38.204,25.197 ; 38.204,56.317 37.124,56.317 37.124,59.197 38.204,59.197 ; 58.644,22.317 59.724,22.317 59.724,25.197 58.644,25.197 ; 58.644,56.317 59.724,56.317 59.724,59.197 58.644,59.197 ; 23.424,23.757 ccw(c26.424,23.757) 26.424,20.757 75.424,20.757 ccw(c75.424,23.757) 78.424,23.757 78.424,57.757 ccw(c75.424,57.757) 75.424,60.757 26.424,60.757 ccw(c26.424,57.757) 23.424,57.757 23.424,23.757
Mechanical 1:
  circle w0.15: c26.924,24.257 r1.075
  circle w0.15: c26.904,57.297 r1.075
  circle w0.15: c74.91,57.296 r1.075
  circle w0.15: c74.885,24.263 r1.075
  lines w0.15: 26.904,60.79 74.91,60.79 ; 26.924,20.745 74.885,20.745 ; 34.118,60.789 26.54,60.789 ccw(c26.54,57.617) 23.368,57.617 23.368,23.917 ccw(c26.54,23.917) 26.54,20.745 34.138,20.745 ; 67.392,20.745 75.314,20.745 ccw(c75.314,23.917) 78.486,23.917 78.486,57.617 ccw(c75.314,57.617) 75.314,60.789 67.417,60.789 ; 37.494,55.76 37.494,59.774 38.206,59.774 59.084,59.774 59.084,55.76 37.494,55.76 ; 37.647,21.724 59.237,21.724 59.237,25.738 38.358,25.738 37.647,25.738 37.647,21.724
Mechanical 13:
  circle w0.2: c58.224,61.507 r0.1
  lines w0.127: 23.424,23.757 ccw(c26.424,23.757) 26.424,20.757 75.424,20.757 ccw(c75.424,23.757) 78.424,23.757 78.424,57.757 ccw(c75.424,57.757) 75.424,60.757 26.424,60.757 ccw(c26.424,57.757) 23.424,57.757 23.424,23.757 ; 37.124,22.317 37.124,25.197 59.724,25.197 59.724,22.317 37.124,22.317 ; 37.124,56.317 37.124,59.197 59.724,59.197 59.724,56.317 37.124,56.317
  text "1-100" at 46.99,57.404 h0.81
  text "101-200" at 45.593,23.368 h0.81
Mechanical 15:
  lines w0.05: 23.174,20.507 23.174,61.007 78.674,61.007 78.674,20.507 23.174,20.507
3D body "RaspberryPi_CM4_WithReceptacleH1.5mm.step": height 5.08, standoff 0, extent 23.368,20.833 78.368,60.833

## DIP762W60P254L460H450Q4N [mm]
pads (4):
  rect 1.2x1.2 hole 0.8: 1(-3.81,1.27)
  round 1.2 hole 0.8: 2(-3.81,-1.27) 3(3.81,-1.27) 4(3.81,1.27)
Top Overlay:
  lines w0.2: -4.41,2.55 3.5,2.55 ; -3.5,-2.55 3.5,-2.55
Mechanical 13:
  lines w0.1: -3.5,1.28 -2.23,2.55 ; -3.5,-2.55 3.5,-2.55 3.5,2.55 -3.5,2.55 -3.5,-2.55
Mechanical 15:
  lines w0.05: -4.81,-2.8 4.81,-2.8 4.81,2.8 -4.81,2.8 -4.81,-2.8
3D body "PC817X3NSZ9F.stp": height 4.5, standoff -3.5, extent -3.96,-2.3 3.96,2.3

## HX5084NLT [mil]
pads (24):
  rect 25x70 smd: 1(-214.49,-177.01) 2(-175.51,-177.01) 3(-136.5,-177.01) 4(-97.52,-177.01) 5(-58.5,-177.01) 6(-19.49,-177.01) 7(19.49,-177.01) 8(58.5,-177.01) 9(97.48,-177.01) 10(136.5,-177.01) 11(175.51,-177.01) 12(214.49,-177.01) 13(214.49,177.01) 14(175.51,177.01) 15(136.5,177.01) 16(97.48,177.01) 17(58.5,177.01) 18(19.49,177.01) 19(-19.49,177.01) 20(-58.5,177.01) 21(-97.52,177.01) 22(-136.5,177.01) 23(-175.51,177.01) 24(-214.49,177.01)
Top Overlay:
  lines w3.94: -214.48,-236.22 ccw(c-214.49,-234.25) -214.5,-232.28 ccw(c-214.49,-234.25) -214.48,-236.22
  lines w7.87: -255.91,-150 -300,-150 -300,150 -255.91,150 ; 255.91,-150 300,-150 300,150 255.91,150
Mechanical 13:
  lines w3.94: -300,-150 300,-150 300,150 -300,150 -300,-150
Mechanical 15:
  lines w3.94: -339.37,-251.38 339.37,-251.38 339.37,251.38 -339.37,251.38 -339.37,-251.38
3D body "HX5084NLT.stp": height 163.18, standoff 0.18, extent -300,-202.5 300,202.5

## JQC3FCT73DC05V [mm]
pads (5):
  rect 1.95x1.95 hole 1.3: 1(0,0)
  round 1.95 hole 1.3: 2(2,-6) 3(14.2,-6) 4(14.2,6) 5(2,6)
Top Overlay:
  lines w0.2: 17.6,-7.8 17.6,7.75 -1.4,7.75 -1.4,-7.75 17.6,-7.75 ; -2.2,0 cw(c-2.15,0) -2.1,0 ; -2.2,0 ccw(c-2.15,0) -2.1,0 ; -2.2,0 cw(c-2.15,0) -2.1,0
Mechanical 13:
  lines w0.1: -1.4,-7.75 17.6,-7.75 17.6,7.75 -1.4,7.75 -1.4,-7.75
Mechanical 15:
  lines w0.1: -2.4,-8.75 18.6,-8.75 18.6,8.75 -2.4,8.75 -2.4,-8.75
3D body "JQC-3FC_T73_DC05V.stp": height 15.6, standoff -5, extent -1.4,-7.75 17.6,7.75

## LGA-14L 2.5 x 3.0 x 0.86 [mm]
pads (14):
  rect 0.475x0.25 smd mask+0.064: 1(-1.163,0.75) 2(-1.163,0.25) 3(-1.163,-0.25) 4(-1.163,-0.75) 8(1.163,-0.75) 9(1.163,-0.25) 10(1.163,0.25) 11(1.163,0.75)
  rect 0.25x0.475 smd mask+0.064: 5(-0.5,-0.912) 6(0,-0.912) 7(0.5,-0.912) 12(0.5,0.912) 13(0,0.912) 14(-0.5,0.912)
Top Overlay:
  lines w0.2: -2.438,0.66 ccw(c-2.438,0.76) -2.438,0.86 ccw(c-2.438,0.76) -2.438,0.66
  lines w0.254: -1.905,-1.422 -1.905,1.346 ; 1.88,-1.448 1.88,1.397
Mechanical 13:
  lines w0.2: -1.5,-1.25 -1.5,1.25 1.5,1.25 1.5,-1.25 -1.5,-1.25
Mechanical 15:
  lines w0.1: -2.918,-2.25 -2.918,2.25 2.5,2.25 2.5,-2.25 -2.918,-2.25
3D body "LSM6DS3TR-C.stp": height 0.86, standoff 0, extent -1.5,-1.25 1.5,1.25

## LS1205EVD33 [mm]
pads (11):
  rect 0.25x0.6 smd: 1(-1,-1.4) 2(-0.5,-1.4) 3(0,-1.4) 4(0.5,-1.4) 5(1,-1.4) 6(1,1.4) 7(0.5,1.4) 8(0,1.4) 9(-0.5,1.4) 10(-1,1.4)
  rect 2.35x1.55 smd: 11(0,0)
Top Overlay:
  lines w0.1: -1,-2.2 cw(c-1,-2.15) -1,-2.1 cw(c-1,-2.15) -1,-2.2
  lines w0.2: -1.5,-1.5 -1.5,1.5 ; 1.5,-1.5 1.5,1.5
Mechanical 13:
  lines w0.1: -1.5,-1.5 -1.5,1.5 1.5,1.5 1.5,-1.5 -1.5,-1.5
Mechanical 15:
  lines w0.1: -2.5,-2.7 -2.5,2.7 2.5,2.7 2.5,-2.7 -2.5,-2.7
3D body "LS1205EVD33.stp": height 0.75, standoff 0, extent -1.5,-1.5 1.5,1.5